# Altium footprint library Transistor.PcbLib: 45 footprints (part 1 of 3)
Each footprint in its own frame and in the unit in brackets; x right, y up, seen from the top. Pads: shape width x height; smd on the part's side, far side on the other; paste and mask are expansions set on the pad; w line width, h text height; cw(c..) or ccw(c..) is an arc to the next point about the centre after c.
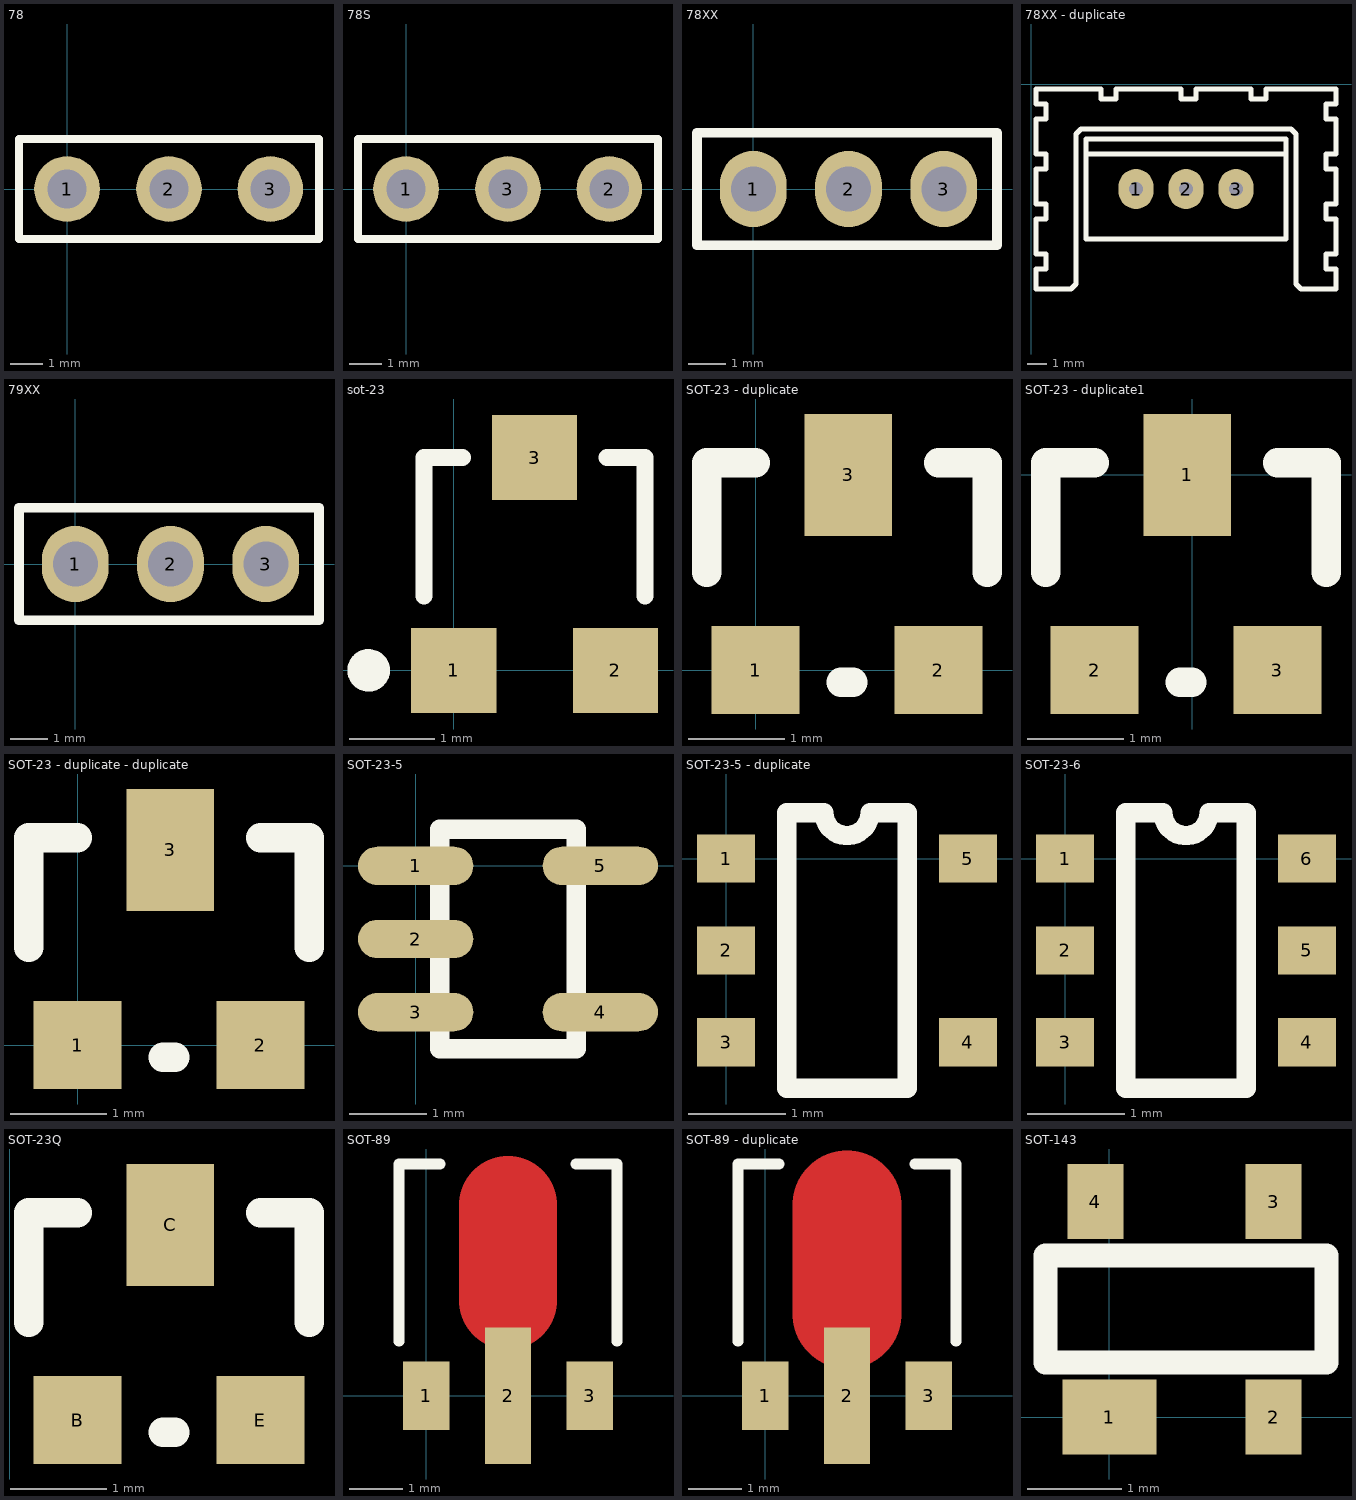
[diagram p0: the footprints below, top view; thin cyan lines are the x and y axes]

## 78 [mm]
pads (3):
  round 2 hole 1.2: 1(0,0) 2(3.107,0) 3(6.198,0)
Top Overlay:
  lines w0.254: -1.465,-1.524 -0.957,-1.524 7.679,-1.524 7.679,1.524 -1.465,1.524 -1.465,-1.524

## 78S [mm]
pads (3):
  round 2 hole 1.2: 1(0,0) 2(6.198,0) 3(3.107,0)
Top Overlay:
  lines w0.254: -1.465,-1.524 -1.465,1.524 7.679,1.524 7.679,-1.524 -0.957,-1.524 -1.465,-1.524

## 78XX [mil]
pads (3):
  oval 70x80 hole 47.24: 1(0,0) 2(100,0) 3(200,0)
Top Overlay:
  lines w10: -59.05,-59.05 -59.05,59.05 255.91,59.05 255.91,-59.05 -59.05,-59.05

## 78XX - duplicate [mil]
pads (3):
  oval 70x80 hole 28: 1(210,-210) 2(310,-210) 3(410,-210)
Top Overlay:
  lines w10: 110,-140 510,-140 ; 10,-410 80,-410 90,-400 90,-100 100,-90 520,-90 530,-100 530,-400 540,-410 560,-410 610,-410 610,-370 590,-370 590,-340 610,-340 610,-270 590,-270 590,-240 610,-240 610,-170 590,-170 590,-140 610,-140 610,-70 590,-70 590,-40 610,-40 610,-10 470,-10 470,-30 440,-30 440,-10 330,-10 330,-30 300,-30 300,-10 170,-10 170,-30 140,-30 140,-10 10,-10 10,-40 30,-40 30,-70 10,-70 10,-140 30,-140 30,-170 10,-170 10,-240 30,-240 30,-270 10,-270 10,-340 30,-340 30,-370 10,-370 10,-410 ; 110,-310 510,-310 510,-110 110,-110 110,-310

## 79XX [mil]
pads (3):
  oval 70x80 hole 47.24: 1(0,0) 2(100,0) 3(200,0)
Top Overlay:
  lines w10: -59.05,-59.05 255.91,-59.05 255.91,59.05 -59.05,59.05 -59.05,-59.05

## sot-23 [mm]
height 1
pads (3):
  rect 1x1 smd: 1(0,0) 2(1.9,0) 3(0.95,2.5)
Top Overlay:
  circle w0.25: c-1,0 r0.125
  lines w0.2: -0.35,0.875 -0.35,2.5 0.1,2.5 ; 1.8,2.5 2.25,2.5 2.25,0.875
3D body "SOT-23-3.STEP": height 1.2, standoff 0, extent -0.5,-0.15 2.4,2.65

## SOT-23 - duplicate [mil]
pads (3):
  rect 36x36 smd: 1(0,0) 2(75,0)
  rect 36x50 smd: 3(38,80)
Top Overlay:
  lines w12: -20,40 -20,85 0,85 ; 35,-5 40,-5 ; 75,85 95,85 95,40

## SOT-23 - duplicate1 [mil]
pads (3):
  rect 36x50 smd: 1(-2,0)
  rect 36x36 smd: 2(-40,-80) 3(35,-80)
Top Overlay:
  lines w12: -60,-40 -60,5 -40,5 ; -5,-85 0,-85 ; 35,5 55,5 55,-40

## SOT-23 - duplicate - duplicate [mil]
pads (3):
  rect 36x36 smd: 1(0,0) 2(75,0)
  rect 36x50 smd: 3(38,80)
Top Overlay:
  lines w12: -20,40 -20,85 0,85 ; 35,-5 40,-5 ; 75,85 95,85 95,40

## SOT-23-5 [mm]
height 1.45
pads (5):
  oval 1.5x0.5 smd: 1(0,0) 2(0,-0.95) 3(0,-1.9) 4(2.4,-1.9) 5(2.4,0)
Top Overlay:
  lines w0.254: 0.962,-2.375 2.089,-2.375 2.089,0.475 0.311,0.475 0.311,-2.375 1.438,-2.375
3D body "SOT-23-5.STEP": height 1.2, standoff 0, extent -0.2,-2.4 2.6,0.5

## SOT-23-5 - duplicate [mm]
pads (5):
  rect 0.6x0.5 smd: 1(0,0) 2(0,-0.95) 3(0,-1.9) 4(2.5,-1.9) 5(2.5,0)
Top Overlay:
  lines w0.2: 0.627,-2.375 1.873,-2.375 1.873,0.475 1.488,0.475 cw(c1.25,0.475) 1.013,0.475 0.627,0.475 0.627,-2.375

## SOT-23-6 [mm]
pads (6):
  rect 0.6x0.5 smd: 1(0,0) 2(0,-0.95) 3(0,-1.9) 4(2.5,-1.9) 5(2.5,-0.95) 6(2.5,0)
Top Overlay:
  lines w0.2: 0.627,-2.375 0.627,0.475 1.012,0.475 ccw(c1.25,0.475) 1.488,0.475 1.873,0.475 1.873,-2.375 0.627,-2.375

## SOT-23Q [mil]
pads (3):
  rect 36x36 smd: B(27.75,-120.28) E(102.75,-120.28)
  rect 36x50 smd: C(65.75,-40.28)
Top Overlay:
  lines w12: 7.75,-80.28 7.75,-35.28 27.75,-35.28 ; 62.76,-125.28 67.75,-125.28 ; 102.75,-35.28 122.75,-35.28 122.75,-80.28

## SOT-89 [mil]
pads (3):
  rect 34x50 smd: 1(0,0) 3(120,0)
  rect 34x100 smd: 2(60,0)
Top Layer:
  lines w72: 60,70 60,140
Top Overlay:
  lines w8: -20,40 -20,170 10,170 ; 110,170 140,170 140,40
Top Solder:
  lines w80: 60,70 60,140

## SOT-89 - duplicate [mil]
pads (3):
  rect 34x50 smd: 1(0,0) 3(120,0)
  rect 34x100 smd: 2(60,0)
Top Layer:
  lines w80: 60,60 60,140
Top Overlay:
  lines w8: -20,40 -20,170 10,170 ; 110,170 140,170 140,40

## SOT-143 [mm]
pads (4):
  rect 1x0.8 smd: 1(0,0)
  rect 0.6x0.8 smd: 2(1.75,0) 3(1.75,2.3) 4(-0.15,2.3)
Top Overlay:
  lines w0.254: -0.683,0.583 -0.683,1.726 2.317,1.726 2.317,0.583 -0.683,0.583
3D body "User Library-SOT-143.step": height 1, standoff 0, extent -0.66,-0.06 2.26,2.36